# Altium schematic symbol library Cap_1210.SchLib: 1 symbol
Pins are listed as number, name and electrical type; pins without a type are passive.

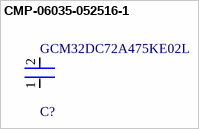
[diagram p0: symbol CMP-06035-052516-1]

## CMP-06035-052516-1
designator C?, comment GCM32DC72A475KE02L
Ceramic Capacitor for Automotive 4.7uF ±10% 100VDC X7S 1210 Embossed T/R; Min Output Voltage: 1V; Output Type: Adjustable; Number of Outputs: 1; RAM Size: 933888b; Output Configuration: Positive; Max Output Voltage: 28V; Number of Logic Elements/Cells: 12084; Number of I/Os: 195; Voltage Rating: 100V; Switching Frequency: 2.1MHz; Max Input Voltage: 36V; Output Current: 2.5A; Synchronous Rectifier: Yes; Min Input Voltage: 4.5V; Mount: Surface Mount; Lead Free: Lead Free; Number of Pins: 400; Case/Package: 1210; Max Operating Temperature: 125°C; Packaging: Tape and Reel; Capacitance: 4.7uF; Case Code (Metric): 3225; Min Operating Temperature: -40°C; Ratings: AEC-Q200; Case Code (Imperial): 1210; Tolerance: 10%
footprint FP-GCM32D-0_3-IPC_A
footprint FP-GCM32D-0_3-IPC_B
footprint FP-GCM32D-0_3-MFG
footprint FP-GCM32D-0_3-IPC_C
pins: 1, 2